# Altium footprint library TC2030.PcbLib: 2 footprints
Each footprint in its own frame and in the unit in brackets; x right, y up, seen from the top. Pads: shape width x height; smd on the part's side, far side on the other; paste and mask are expansions set on the pad; w line width, h text height; cw(c..) or ccw(c..) is an arc to the next point about the centre after c.
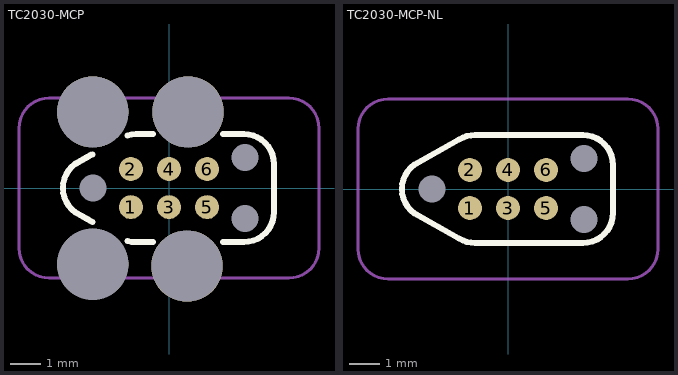
[diagram p0: the footprints below, top view; thin cyan lines are the x and y axes]

## TC2030-MCP [mm] "Conector ICD en placa"
height 8
pads (13):
  round 0.8 smd paste-0.4: 1(-1.27,-0.635) 2(-1.27,0.635) 3(0,-0.635) 4(0,0.635) 5(1.27,-0.635) 6(1.27,0.635)
  round 2.375 hole 2.375 unplated mask+0: ""(-2.54,-2.54) ""(-2.54,2.54) ""(0.6,-2.6) ""(0.635,2.54)
  round 0.85 hole 0.9 unplated mask+0: ""(-2.54,0) ""(2.54,-1.016) ""(2.54,1.016)
Top Overlay:
  lines w0.2: -2.556,-1.128 -2.741,-1.024 -3.111,-0.816 cw(c-2.544,0) -3.111,0.816 -2.741,1.024 -2.556,1.128 ; -1.387,-1.758 ccw(c-1.1,-0.8) -1.1,-1.8 -0.54,-1.8 ; -1.387,1.758 cw(c-1.1,0.8) -1.1,1.8 -0.54,1.8 ; 1.8,-1.8 2.5,-1.8 ccw(c2.5,-0.8) 3.5,-0.8 3.5,0.8 ccw(c2.5,0.8) 2.5,1.8 1.8,1.8
Mechanical 15:
  lines w0.1: -5,-2 ccw(c-4,-2) -4,-3 4,-3 ccw(c4,-2) 5,-2 5,2 ccw(c4,2) 4,3 -4,3 ccw(c-4,2) -5,2 -5,-2
3D body: height 0, standoff 0, extent -3.539,-1.801 3.501,1.801

## TC2030-MCP-NL [mm] "Conector ICD en placa"
height 8
pads (9):
  round 0.8 smd paste-0.4: 1(-1.27,-0.635) 2(-1.27,0.635) 3(0,-0.635) 4(0,0.635) 5(1.27,-0.635) 6(1.27,0.635)
  round 0.85 hole 0.9 unplated mask+0: ""(-2.54,0) ""(2.54,-1.016) ""(2.54,1.016)
Top Overlay:
  lines w0.2: -3.111,-0.816 cw(c-2.544,0) -3.111,0.816 -1.63,1.648 cw(c-1.1,0.8) -1.1,1.8 2.5,1.8 cw(c2.5,0.8) 3.5,0.8 3.5,-0.8 cw(c2.5,-0.8) 2.5,-1.8 -1.1,-1.8 cw(c-1.1,-0.8) -1.63,-1.648 -3.111,-0.816
Mechanical 15:
  lines w0.1: -5,-2 ccw(c-4,-2) -4,-3 4,-3 ccw(c4,-2) 5,-2 5,2 ccw(c4,2) 4,3 -4,3 ccw(c-4,2) -5,2 -5,-2
3D body: height 0, standoff 0, extent -3.539,-1.801 3.501,1.801